# Altium footprint library All.PcbLib: 2 footprints
Each footprint in its own frame and in the unit in brackets; x right, y up, seen from the top. Pads: shape width x height; smd on the part's side, far side on the other; paste and mask are expansions set on the pad; w line width, h text height; cw(c..) or ccw(c..) is an arc to the next point about the centre after c.
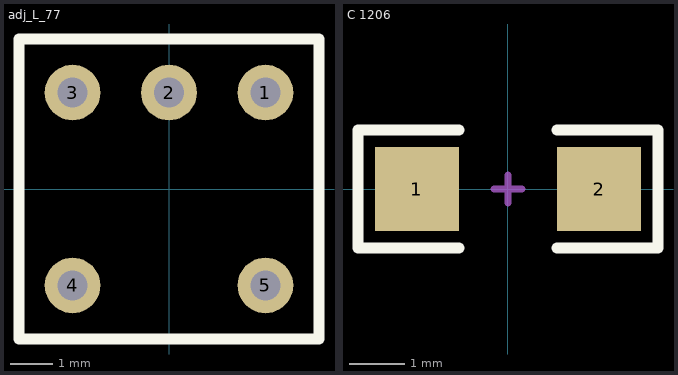
[diagram p0: the footprints below, top view; thin cyan lines are the x and y axes]

## adj_L_77 [mm]
pads (5):
  round 1.3 hole 0.7: 1(2.25,2.25) 2(0,2.25) 3(-2.25,2.25) 4(-2.25,-2.25) 5(2.25,-2.25)
Top Overlay:
  lines w0.254: -3.5,-3.5 3.5,-3.5 3.5,3.5 -3.5,3.5 -3.5,-3.5

## C 1206 [mil] "无极性贴片电容"
pads (2):
  rect 60x60 smd: 1(-65,0) 2(65,0)
Top Overlay:
  lines w8: -35,-42 -107,-42 -107,42 -35,42 ; 35,-42 107,-42 107,42 35,42
Mechanical 15:
  lines w5: -10,0 10,0 ; 0,-10 0,10
3D body "C 1206.STEP": height 47.64, standoff -0.39, extent -62.99,-31.89 62.99,31.89